# Altium footprint library occhi.PcbLib: 17 footprints (part 2 of 2)
Each footprint in its own frame and in the unit in brackets; x right, y up, seen from the top. Pads: shape width x height; smd on the part's side, far side on the other; paste and mask are expansions set on the pad; w line width, h text height; cw(c..) or ccw(c..) is an arc to the next point about the centre after c.
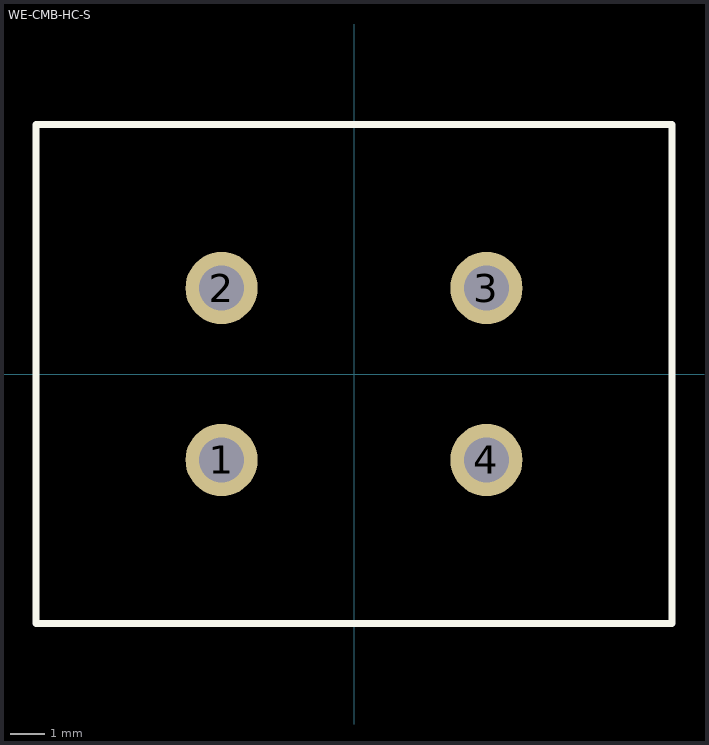
[diagram p1: the footprint, top view; thin cyan lines are the x and y axes]

## WE-CMB-HC-S [mm] "THT Inductor, 4-Leads, Body 18.5 x 14.5 mm"
height 22
pads (4):
  round 2.1 hole 1.3: 1(-3.85,-2.5) 2(-3.85,2.5) 3(3.85,2.5) 4(3.85,-2.5)
Top Overlay:
  lines w0.2: -9.25,-7.25 9.25,-7.25 9.25,7.25 -9.25,7.25 -9.25,-7.25
Mechanical 1:
  lines w0.1: -9.25,-7.25 9.25,-7.25 9.25,7.25 -9.25,7.25 -9.25,-7.25
3D body "7448225007.stp": height 19.9, standoff -3.5, extent -7.86,-6.5 7.86,6.5